# EAGLE library part IV-26-T3_DISP (library vfd)
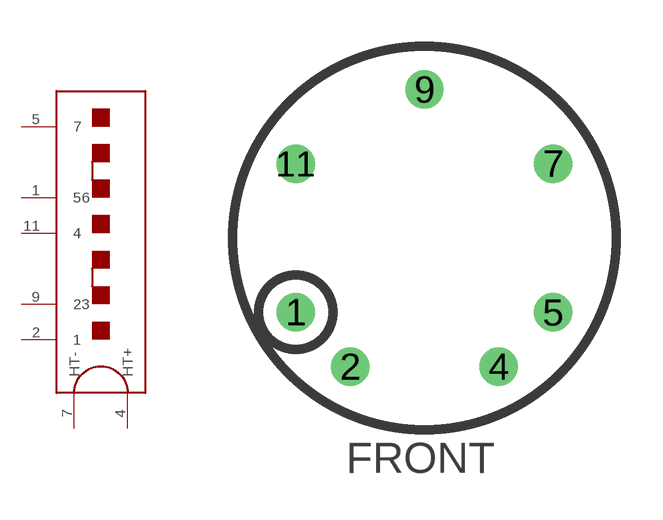
[diagram p6: symbol with the pads of IV-26_T2_T3; footprint IV-26_T2_T3]

Designator prefix -

## IV-26-T3_DISP  [IV-26_T2_T3]
1  56  in
2  1  in
4  HT+  pwr
5  7  in
7  HT-  pwr
9  23  in
11  4  in

## Footprint IV-26_T2_T3 (pad centres in mm)
Eagle SCR autogenerated 12 pin Nixie socket
drill 0.735: 1 -4.169,-2.407; 2 -2.407,-4.169; 4 2.407,-4.169; 5 4.169,-2.407; 7 4.169,2.407; 9 0,4.814; 11 -4.169,2.407